# EAGLE library part CTS766 (library F030NG)
cts 766 Series Surface Mount Resistor Network, dual rezistor bus termination type
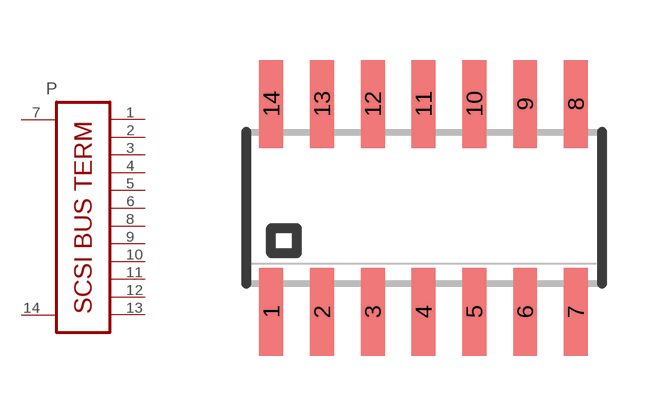
[diagram p43: symbol with the pads of SO14; footprint SO14]

Designator prefix P

## CTS766  [SO14]
1  R1  pas
2  R2  pas
3  R3  pas
4  R4  pas
5  R5  pas
6  R6  pas
7  N2  pas
8  R7  pas
9  R8  pas
10  R9  pas
11  R10  pas
12  R11  pas
13  R12  pas
14  N  pas

## Footprint SO14 (pad centres in mm)
SMALL OUTLINE INTEGRATED CIRCUIT body 3.9 mm/JEDEC MS-012AA
smd 0.6 x 2.2: 1 -3.81,-2.6; 2 -2.54,-2.6; 3 -1.27,-2.6; 4 0,-2.6; 5 1.27,-2.6; 6 2.54,-2.6; 7 3.81,-2.6; 8 3.81,2.6; 9 2.54,2.6; 10 1.27,2.6; 11 0,2.6; 12 -1.27,2.6; 13 -2.54,2.6; 14 -3.81,2.6